# Altium integrated library MCP2551T-I_SN.IntLib: 1 symbol
Pins are listed as number, name and electrical type; pins without a type are passive.

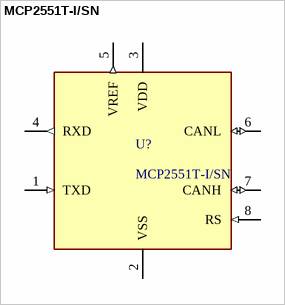
[diagram p0: symbol MCP2551T-I/SN]

## MCP2551T-I/SN
designator U?
1/1 Transceiver Half CANbus 8-SOIC; MF: Microchip; Availability: Unavailable; SnapEDA_Link: https://www.snapeda.com/parts/MCP2551T-I/SN/Microchip/view-part/1037590/?ref=snap; Price: None; Package: SO-8 Microchip; MP: MCP2551T-I/SN; Value: *
footprint SOIC127P600X175-8N
pins: 1 TXD (in), 2 VSS, 3 VDD (power), 4 RXD (out), 5 VREF (out), 6 CANL (io), 7 CANH (io), 8 RS (in)